# EAGLE library part NDC7002N (library house)
Farichild Dual N-Channel Enhancement Mode MOSFET
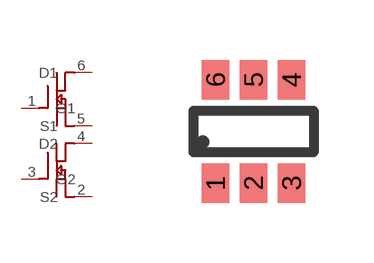
[diagram p4: symbol with the pads of SOT-6; footprint SOT-6]

Designator prefix -

## NDC7002N"  [SOT-6]
1  G1
2  S2
3  G2
4  D2
5  S1
6  D1

## Footprint SOT-6 (pad centres in mm)
smd 0.69 x 0.99: 1 -0.95,0; 2 0,0; 3 0.95,0; 4 0.95,2.59; 5 0,2.59; 6 -0.95,2.59